# Altium footprint library dfn.PcbLib: 2 footprints
Each footprint in its own frame and in the unit in brackets; x right, y up, seen from the top. Pads: shape width x height; smd on the part's side, far side on the other; paste and mask are expansions set on the pad; w line width, h text height; cw(c..) or ccw(c..) is an arc to the next point about the centre after c.
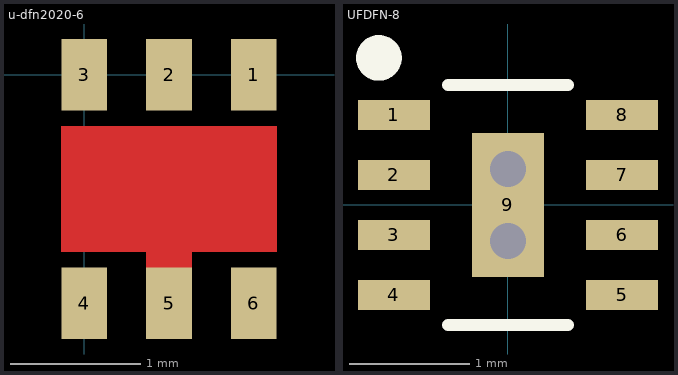
[diagram p0: the footprints below, top view; thin cyan lines are the x and y axes]

## u-dfn2020-6 [mm]
pads (6):
  rect 0.35x0.55 all layers, no hole: 1(1.3,0) 2(0.65,0) 3(0,0) 4(0,-1.75) 5(0.65,-1.75) 6(1.3,-1.75)
Top Layer:
  region: -0.175,-0.395 1.475,-0.395 1.475,-1.355 0.825,-1.355 0.825,-2.025 0.475,-2.025 0.475,-1.355 -0.175,-1.355

## UFDFN-8 [mm]
pads (9):
  rect 0.6x0.25 smd mask+0.05: 1(-0.95,0.75) 2(-0.95,0.25) 3(-0.95,-0.25) 4(-0.95,-0.75) 5(0.95,-0.75) 6(0.95,-0.25) 7(0.95,0.25) 8(0.95,0.75)
  rect 0.6x1.2 smd: 9(0,0)
via 0,0.3 diameter 0.6 hole 0.3
via 0,-0.3 diameter 0.6 hole 0.3
Top Overlay:
  circle w0.2: c-1.075,1.225 r0.09
  lines w0.1: -0.5,-1 0.5,-1 ; -0.5,1 0.5,1
3D body: height 0.55, standoff 0, extent -1,-1 1,1